# EAGLE library part 5584ИР22 (library std-logic-5584series)
АЕЯР.431200.209 ТУ 5584ИР22У, 5584ИР22АУ - Восьмиразрядный регистр, управляемый по уровню, с параллельным вводом-выводом данных, с тремя состояниями на выходе.
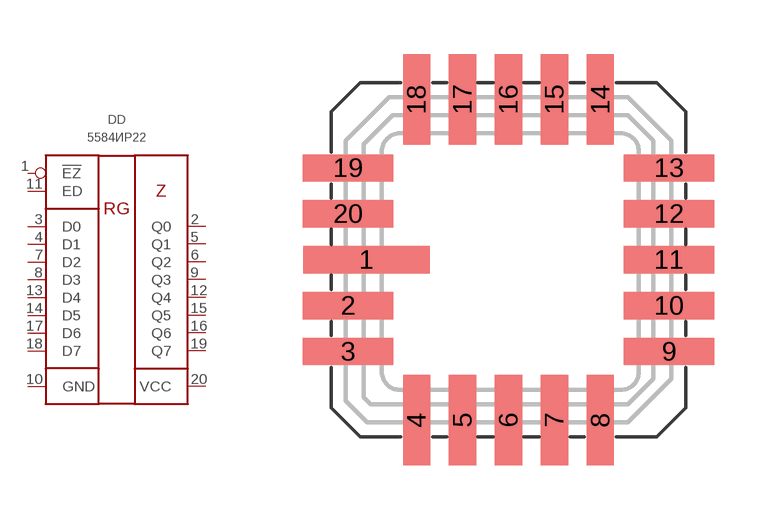
[diagram p9: symbol with the pads of 5121.20-A; footprint 5121.20-A]

Designator prefix DD

## 5584ИР22У  [5121.20-A]
1  !EZ  in
2  Q0  out
3  D0  in
4  D1  in
5  Q1  out
6  Q2  out
7  D2  in
8  D3  in
9  Q3  out
10  GND  pwr
11  ED  in
12  Q4  out
13  D4  in
14  D5  in
15  Q5  out
16  Q6  out
17  D6  in
18  D7  in
19  Q7  out
20  VCC  pwr

## 5584ИР22АУ  [5121.20-A]
Pads as for 5121.20-A

## Footprint 5121.20-A (pad centres in mm)
smd 3.5 x 0.75: 1 -3.925,0
smd 2.5 x 0.75: 2 -4.435,-1.27; 3 -4.435,-2.54; 9 4.435,-2.54; 10 4.435,-1.27; 11 4.435,0; 12 4.435,1.27; 13 4.435,2.54; 19 -4.435,2.54; 20 -4.435,1.27
smd 0.75 x 2.5: 4 -2.54,-4.435; 5 -1.27,-4.435; 6 0,-4.435; 7 1.27,-4.435; 8 2.54,-4.435; 14 2.54,4.435; 15 1.27,4.435; 16 0,4.435; 17 -1.27,4.435; 18 -2.54,4.435